# EAGLE library part LM380 (library My Library)
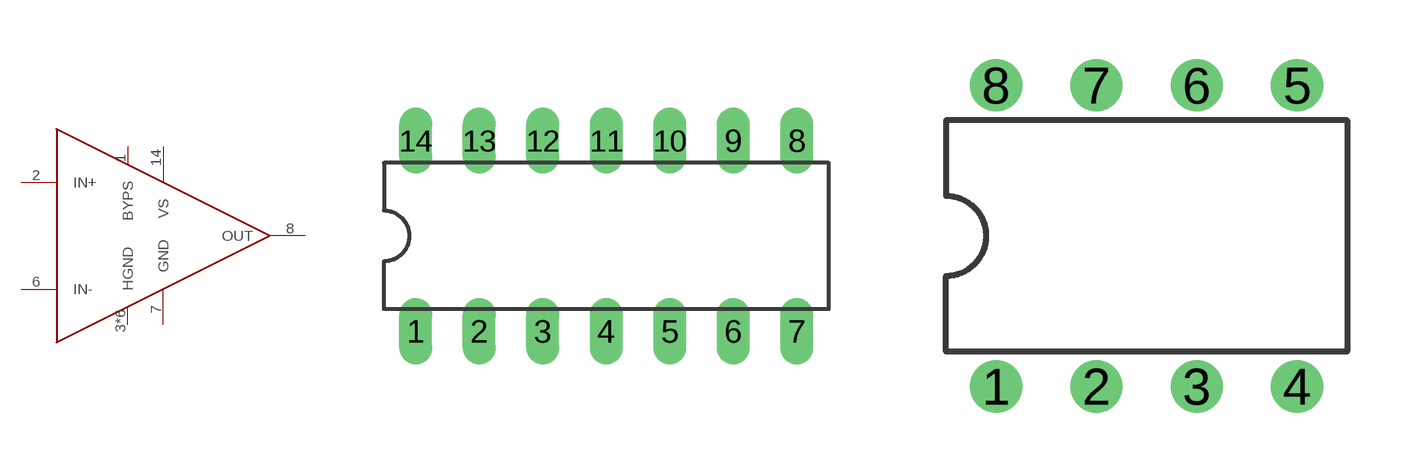
[diagram p9: symbol with the pads of DIL14; footprints DIL14, DIL08]

Designator prefix -

## LM380N  [DIL14]
1  BYPS  pas
2  IN+  in
3  HGND  pwr
4  HGND  pwr
5  HGND  pwr
6  IN-
7  GND  pwr
8  OUT  out
10  HGND  pwr
11  HGND  pwr
12  HGND  pwr
14  VS  pwr

## LM380N-8  [DIL08]
2  IN+  in
3  IN-
4  GND  pwr
5  HGND  pwr
6  OUT  out
7  VS  pwr
8  BYPS  pas

## Footprint DIL14 (pad centres in mm)
Dual In Line Package
drill 0.813 long: 1 -7.62,-3.81; 2 -5.08,-3.81; 3 -2.54,-3.81; 4 0,-3.81; 5 2.54,-3.81; 6 5.08,-3.81; 7 7.62,-3.81; 8 7.62,3.81; 9 5.08,3.81; 10 2.54,3.81; 11 0,3.81; 12 -2.54,3.81; 13 -5.08,3.81; 14 -7.62,3.81

## Footprint DIL08 (pad centres in mm)
Dual In Line Package
drill 0.813 pad 1.27: 1 -3.81,-3.81; 2 -1.27,-3.81; 3 1.27,-3.81; 4 3.81,-3.81; 5 3.81,3.81; 6 1.27,3.81; 7 -1.27,3.81; 8 -3.81,3.81